# EAGLE library part SUREELECT_LED-DRIVER-10W (library CMU-ArtFab)
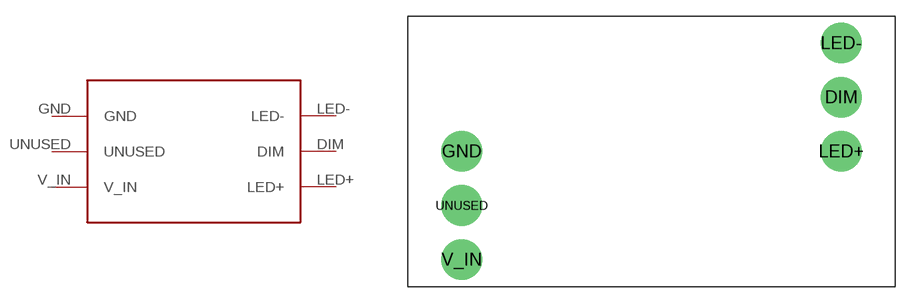
[diagram p1: symbol with the pads of SUREELECT_LED-DRIVER-10W; footprint SUREELECT_LED-DRIVER-10W]

Designator prefix -

## SUREELECT_LED-DRIVER-10W  [SUREELECT_LED-DRIVER-10W]
DIM  DIM
GND  GND
LED+  LED+
LED-  LED-
UNUSED  UNUSED
V_IN  V_IN

## Footprint SUREELECT_LED-DRIVER-10W (pad centres in mm)
drill 1.4 pad 3.81: DIM 40.64,17.78; GND 5.08,12.7; LED+ 40.64,12.7; LED- 40.64,22.86; UNUSED 5.08,7.62; V_IN 5.08,2.54